# Altium schematic symbol library pag7936.SchLib: 20 symbols
Pins are listed as number, name and electrical type; pins without a type are passive.

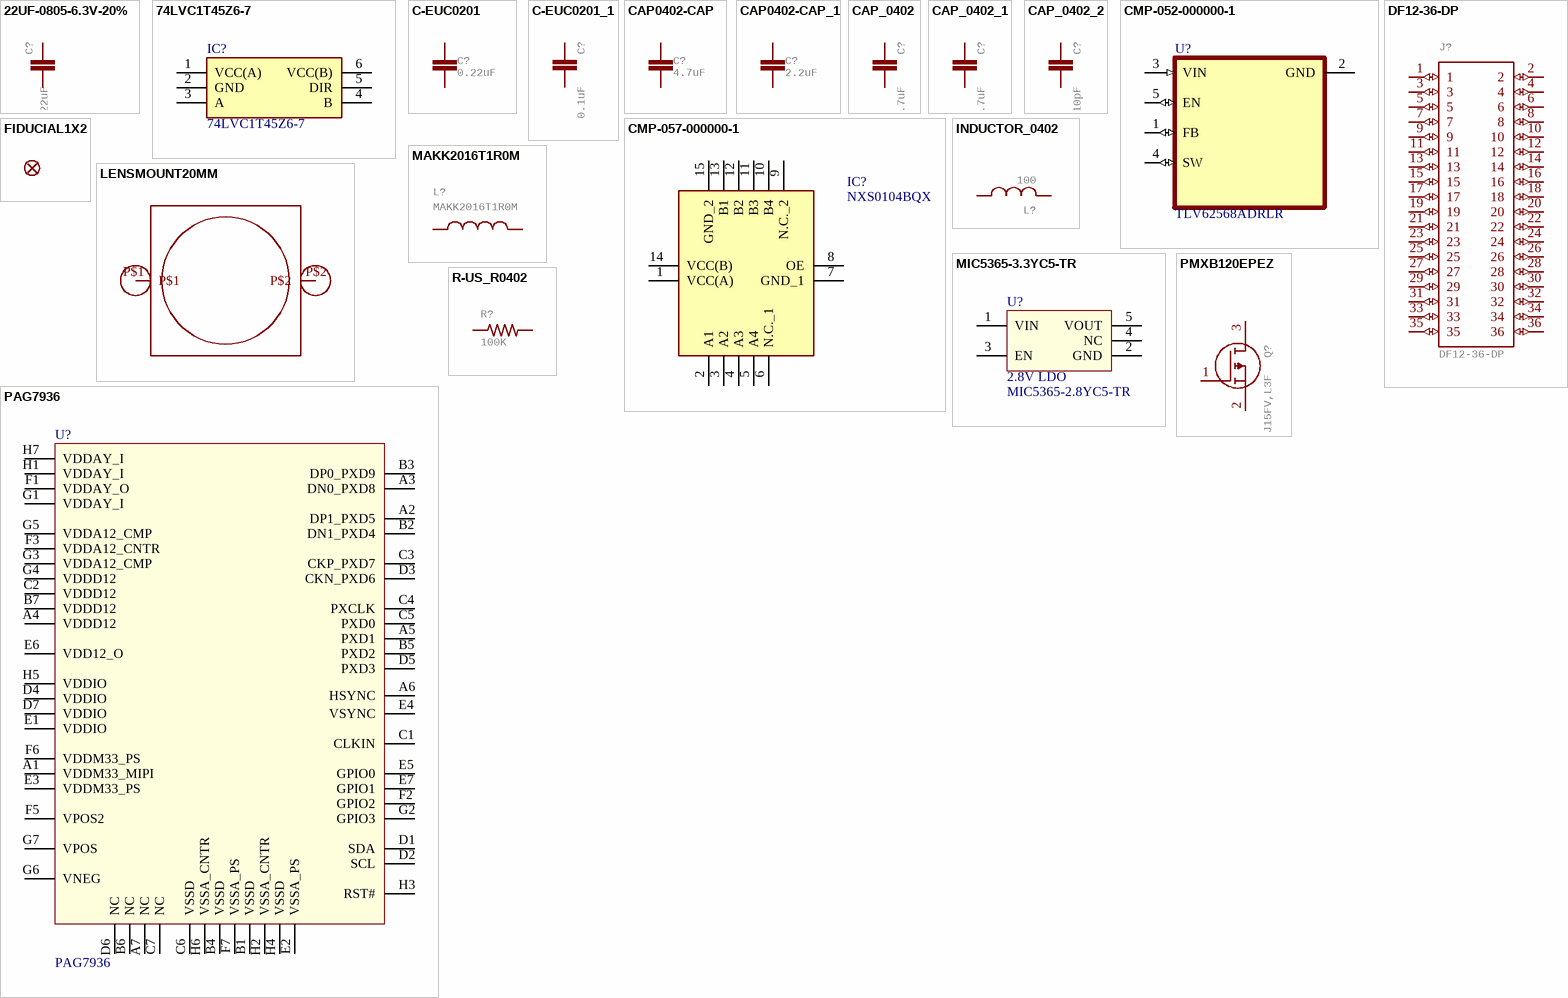
[diagram p0: symbols 22UF-0805-6.3V-20% to R-US_R0402]

## 22UF-0805-6.3V-20%
designator C?, comment 22uF
22ÂµF ceramic capacitors    A capacitor is a passive two-terminal electrical component used to store electrical energy temporarily in an electric field.; MPN: CL21A226MQQNNNE; GateName_1: G$1; SymbolName_1: CAP; DeviceName: -0805-6.3V-20%; PROD_ID: CAP-08402; LibraryName: SparkFun-Capacitors; DeviceSetName: 22UF
footprint 0805
pins: 1, 2

## 74LVC1T45Z6-7
designator IC?
Integrated Circuit; Manufacturer_Name: Diodes Incorporated; Datasheet Link: https://www.diodes.com//assets/Datasheets/74LVC1T45.pdf; Height: 0.6mm; Manufacturer_Part_Number: 74LVC1T45Z6-7; Mouser Part Number: 621-74LVC1T45Z6-7; Mouser Price/Stock: https://www.mouser.co.uk/ProductDetail/Diodes-Incorporated/74LVC1T45Z6-7?qs=Oxncjon6mbri043VV7aCkA%3D%3D; Arrow Part Number: 74LVC1T45Z6-7; Arrow Price/Stock: https://www.arrow.com/en/products/74lvc1t45z6-7/diodes-incorporated?region=nac
footprint 74LVC1T45Z67
pins: 1 VCC(A), 2 GND, 3 A, 4 B, 5 DIR, 6 VCC(B)

## C-EUC0201
designator C?, comment 0.22uF
CAPACITOR, European symbol; MPN: GRM033R60J224ME15D; GateName_1: G$1; SymbolName_1: C-EU; DeviceName: C0201; POPULARITY: 0; LibraryName: rcl; DeviceSetName: C-EU; SPICEPREFIX: C; Part Number: GRM033R60J224ME15D
footprint C0201
pins: 1, 2

## C-EUC0201_1
designator C?, comment 0.1uF
CAPACITOR, European symbol; MPN: C0402C104Z4VAC; GateName_1: G$1; SymbolName_1: C-EU; POPULARITY: 0; LibraryName: rcl; DeviceSetName: C-EU; SPICEPREFIX: C; Part Number: C0402C104Z4VAC
footprint 0402-CAP (Chip Capacitor, 2-Leads, Body  0402 (in) 1005 (mm), IPC Medium Density)
pins: 1, 2

## CAP0402-CAP
designator C?, comment 4.7uF
CapacitorStandard 0603 ceramic capacitor, and 0.1" leaded capacitor.; MPN: JMK105BBJ475MV-F; GateName_1: G$1; SymbolName_1: CAP; DeviceName: 0402-CAP; LibraryName: sfe; DeviceSetName: CAP; Part Number: JMK105BBJ475MV-F
footprint 0402-CAP (Chip Capacitor, 2-Leads, Body  0402 (in) 1005 (mm), IPC Medium Density)
pins: 1, 2

## CAP0402-CAP_1
designator C?, comment 2.2uF
CapacitorStandard 0603 ceramic capacitor, and 0.1" leaded capacitor.; MPN: CL05A225MQ5NNNC; GateName_1: G$1; SymbolName_1: CAP; DeviceName: 0402-CAP; LibraryName: sfe; DeviceSetName: CAP; Part Number: CL05A225MQ5NNNC
footprint 0402-CAP (Chip Capacitor, 2-Leads, Body  0402 (in) 1005 (mm), IPC Medium Density)
pins: 1, 2

## CAP_0402
designator C?, comment 4.7uF
0402 (1005 Metric) Nick Garner - TeleSense; MPN: JMK105BBJ475MV-F; GateName_1: G$1; SymbolName_1: CAP; DeviceSetName: CAP_0402; LibraryName: 0402
footprint 0402-CAP (Chip Capacitor, 2-Leads, Body  0402 (in) 1005 (mm), IPC Medium Density)
pins: 1, 2

## CAP_0402_1
designator C?, comment 4.7uF
0402 (1005 Metric) Nick Garner - TeleSense; MPN: JMK105BBJ475MV-F; GateName_1: G$1; SymbolName_1: CAP; DeviceSetName: CAP_0402; LibraryName: 0402
footprint 0402-CAP (Chip Capacitor, 2-Leads, Body  0402 (in) 1005 (mm), IPC Medium Density)
pins: 1, 2

## CAP_0402_2
designator C?, comment 10pF
0402 (1005 Metric) Nick Garner - TeleSense; MPN: 0402N100D500CT; GateName_1: G$1; SymbolName_1: CAP; DeviceSetName: CAP_0402; LibraryName: 0402
footprint 0402-CAP (Chip Capacitor, 2-Leads, Body  0402 (in) 1005 (mm), IPC Medium Density)
pins: 1, 2

## CMP-052-000000-1
designator U?, comment TLV62568ADRLR
2.5V-5.5V input, 1A high efficiency step-down buck converter with forced PWM in small SOT563 package 6-SOT-5X3 -40 to 125; MF: Texas Instruments; Purchase-URL: https://pricing.snapeda.com/search/part/TLV62568ADRLR/?ref=eda; Package: SOT-5X3-6 Texas Instruments; MP: TLV62568ADRLR; Value: *; Price: None; Component Type: Standard; SnapEDA_Link: https://www.snapeda.com/parts/TLV62568ADRLR/Texas%20Instruments/view-part/2776350/?ref=snap; Pin Count: 5; Availability: Good; Design Item ID: TLV62568ADRLR; Source: TLV62568ADRLR.SchLib; Check_prices: https://www.snapeda.com/parts/TLV62568ADRLR/Texas%20Instruments/view-part/2776350/?ref=eda; MPN: TLV62568ADRLR; Part Number: TLV62568ADRLR
footprint SOT50P160X60-6N
pins: 1 FB (io), 2 GND (power), 3 VIN (in), 4 SW (io), 5 EN (io)

## CMP-057-000000-1
designator IC?, comment NXS0104BQX
NXS0104 - Dual supply translating transceiver; open drain; autodirectionsensing@en-us; Manufacturer_Name: Nexperia; Height: 1mm; Source: SamacSys.SchLib; Mouser Part Number: 771-NXS0104BQX; Manufacturer_Part_Number: NXS0104BQX; Datasheet Link: https://assets.nexperia.com/documents/data-sheet/NXS0104.pdf; Mouser Price/Stock: https://www.mouser.co.uk/ProductDetail/Nexperia/NXS0104BQX?qs=2WXlatMagcEya%2F7vq6wExg%3D%3D; Design Item ID: NXS0104BQX; <PN: NXS0104BQX; Part Number: NXS0104BQX; MPN: NXS0104BQX
footprint NXS0104BQX
pins: 1 VCC(A), 2 A1, 3 A2, 4 A3, 5 A4, 6 N.C._1, 7 GND_1, 8 OE, 9 N.C._2, 10 B4, 11 B3, 12 B2, 13 B1, 14 VCC(B), 15 GND_2

## DF12-36-DP
designator J?
MPN: DF12NB(3.0)-36DP-0.5V(51); GateName_1: G$1; SymbolName_1: DF12-36; LibraryName: DF12NB(3.0)-36DP-0.5V(51); DeviceSetName: DF12-36-DP
footprint DF12-36-DP
pins: 1 (io), 2 (io), 3 (io), 4 (io), 5 (io), 6 (io), 7 (io), 8 (io), 9 (io), 10 (io), 11 (io), 12 (io), 13 (io), 14 (io), 15 (io), 16 (io), 17 (io), 18 (io), 19 (io), 20 (io), 21 (io), 22 (io), 23 (io), 24 (io), 25 (io), 26 (io), 27 (io), 28 (io), 29 (io), 30 (io), 31 (io), 32 (io), 33 (io), 34 (io), 35 (io), 36 (io)

## FIDUCIAL1X2
designator FD?  (value not drawn)
Fiducial Alignment Points    Point-of-reference for pick-and-place machines and other optical instruments.; GateName_1: G$1; DeviceName: 1X2; SymbolName_1: FIDUCIAL; LibraryName: SparkFun-Aesthetics; DeviceSetName: FIDUCIAL
footprint FIDUCIAL-1X2

## INDUCTOR_0402
designator L?, comment 100
MPN: MFBM1V1005-101-R; GateName_1: G$1; SymbolName_1: INDUCTOR; DeviceSetName: INDUCTOR_0402; LibraryName: 0402
footprint 0402
pins: 1 P$1, 2 P$2

## LENSMOUNT20MM
designator H?  (value not drawn)
GateName_1: G$1; SymbolName_1: LENS; DeviceName: 20MM; LibraryName: lensmount; DeviceSetName: LENSMOUNT
footprint LENSMOUNT-20MM
pins: P$1 (power), P$2 (power)

## MAKK2016T1R0M
designator L?
Ind Power Wirewound 1uH 20% 2MHz Metal 2200mA 0806 Check availability; GateName_1: G$1; MF: Taiyo Yuden; SymbolName_1: MAKK2016T1R0M; LibraryName: MAKK2016T1R0M; DeviceSetName: MAKK2016T1R0M; AVAILABILITY: In Stock; MP: MAKK2016T1R0M; MPN: MAKK2016T1R0M; PACKAGE: 2016 Taiyo Yuden; PRICE: None; PURCHASE-URL: https://pricing.snapeda.com/search/part/MAKK2016T1R0M/?ref=eda; Part Number: MAKK2016T1R0M
footprint INDC2016X100N
pins: 1, 2

## MIC5365-3.3YC5-TR
designator U?, comment 2.8V LDO  MPN: MIC5365-2.8YC5-TR
MF: Microchip; Part Number: MIC5365-2.8YC5-TR
footprint SC70-5
pins: 1 VIN, 2 GND, 3 EN, 4 NC, 5 VOUT

## PAG7936
designator U?
MF: PixArt; MPN: PAG7936
footprint PAG7936 (Footprint not found)
pins: A1 VDDM33_MIPI, A2 DP1_PXD5, A3 DN0_PXD8, A4 VDDD12, A5 PXD1, A6 HSYNC, A7 NC, B1 VSSD, B2 DN1_PXD4, B3 DP0_PXD9, B4 VSSD, B5 PXD2, B6 NC, B7 VDDD12, C1 CLKIN, C2 VDDD12, C3 CKP_PXD7, C4 PXCLK, C5 PXD0, C6 VSSD, C7 NC, D1 SDA, D2 SCL, D3 CKN_PXD6, D4 VDDIO, D5 PXD3, D6 NC, D7 VDDIO, E1 VDDIO, E2 VSSA_PS, E3 VDDM33_PS, E4 VSYNC, E5 GPIO0, E6 VDD12_O, E7 GPIO1, F1 VDDAY_O, F2 GPIO2, F3 VDDA12_CNTR, F5 VPOS2, F6 VDDM33_PS, F7 VSSA_PS, G1 VDDAY_I, G2 GPIO3, G3 VDDA12_CMP, G4 VDDD12, G5 VDDA12_CMP, G6 VNEG, G7 VPOS, H1 VDDAY_I, H2 VSSA_CNTR, H3 RST#, H4 VSSD, H5 VDDIO, H6 VSSA_CNTR, H7 VDDAY_I

## PMXB120EPEZ
designator Q?, comment SSM3J15FV,L3F
MOSFET 30 V, P-channel Trench MOSFET   Source:  Datasheet; GateName_1: G$1; SymbolName_1: SSM3J15FV,L3F; LibraryName: SSM3J15FV,L3F; DeviceSetName: SSM3J15FV,L3F; HEIGHT: 0.4mm; MANUFACTURER_PART_NUMBER: SSM3J15FV,L3F; MOUSER_PART_NUMBER: SSM3J15FV,L3F; MPN: SSM3J15FV,L3F
footprint SSM3J15FV
pins: 1 G (io), 2 S (io), 3 D (io)

## R-US_R0402
designator R?, comment 100K
RESISTOR, American symbol; MPN: AC0402FR-07100KL; GateName_1: G$1; SymbolName_1: R-US; DeviceName: R0402; DeviceSetName: R-US_; POPULARITY: 34; LibraryName: rcl; SPICEPREFIX: R
footprint R0402
pins: 1, 2